# EAGLE library part DRV8837 (library digikey)
DRV8837 DSG - H-Bridge
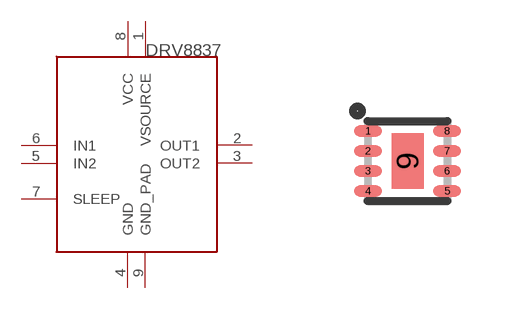
[diagram p1: symbol with the pads of WSON-8; footprint WSON-8]

Designator prefix -

## DRV8837  [WSON-8]
1  VSOURCE
2  OUT1
3  OUT2
4  GND
5  IN2
6  IN1
7  SLEEP
8  VCC
9  GND_PAD

## Footprint WSON-8 (pad centres in mm)
WSON-8 Package 2x2mm
smd 0.7 x 0.279: 1 -0.99,0.75; 2 -0.99,0.25; 3 -0.99,-0.25; 4 -0.99,-0.75; 5 0.99,-0.75; 6 0.99,-0.25; 7 0.99,0.25; 8 0.99,0.75
smd 0.8 x 1.38: 9 0,0